# Altium footprint library GS-101.PcbLib: 29 footprints (part 2 of 2)
Each footprint in its own frame and in the unit in brackets; x right, y up, seen from the top. Pads: shape width x height; smd on the part's side, far side on the other; paste and mask are expansions set on the pad; w line width, h text height; cw(c..) or ccw(c..) is an arc to the next point about the centre after c.
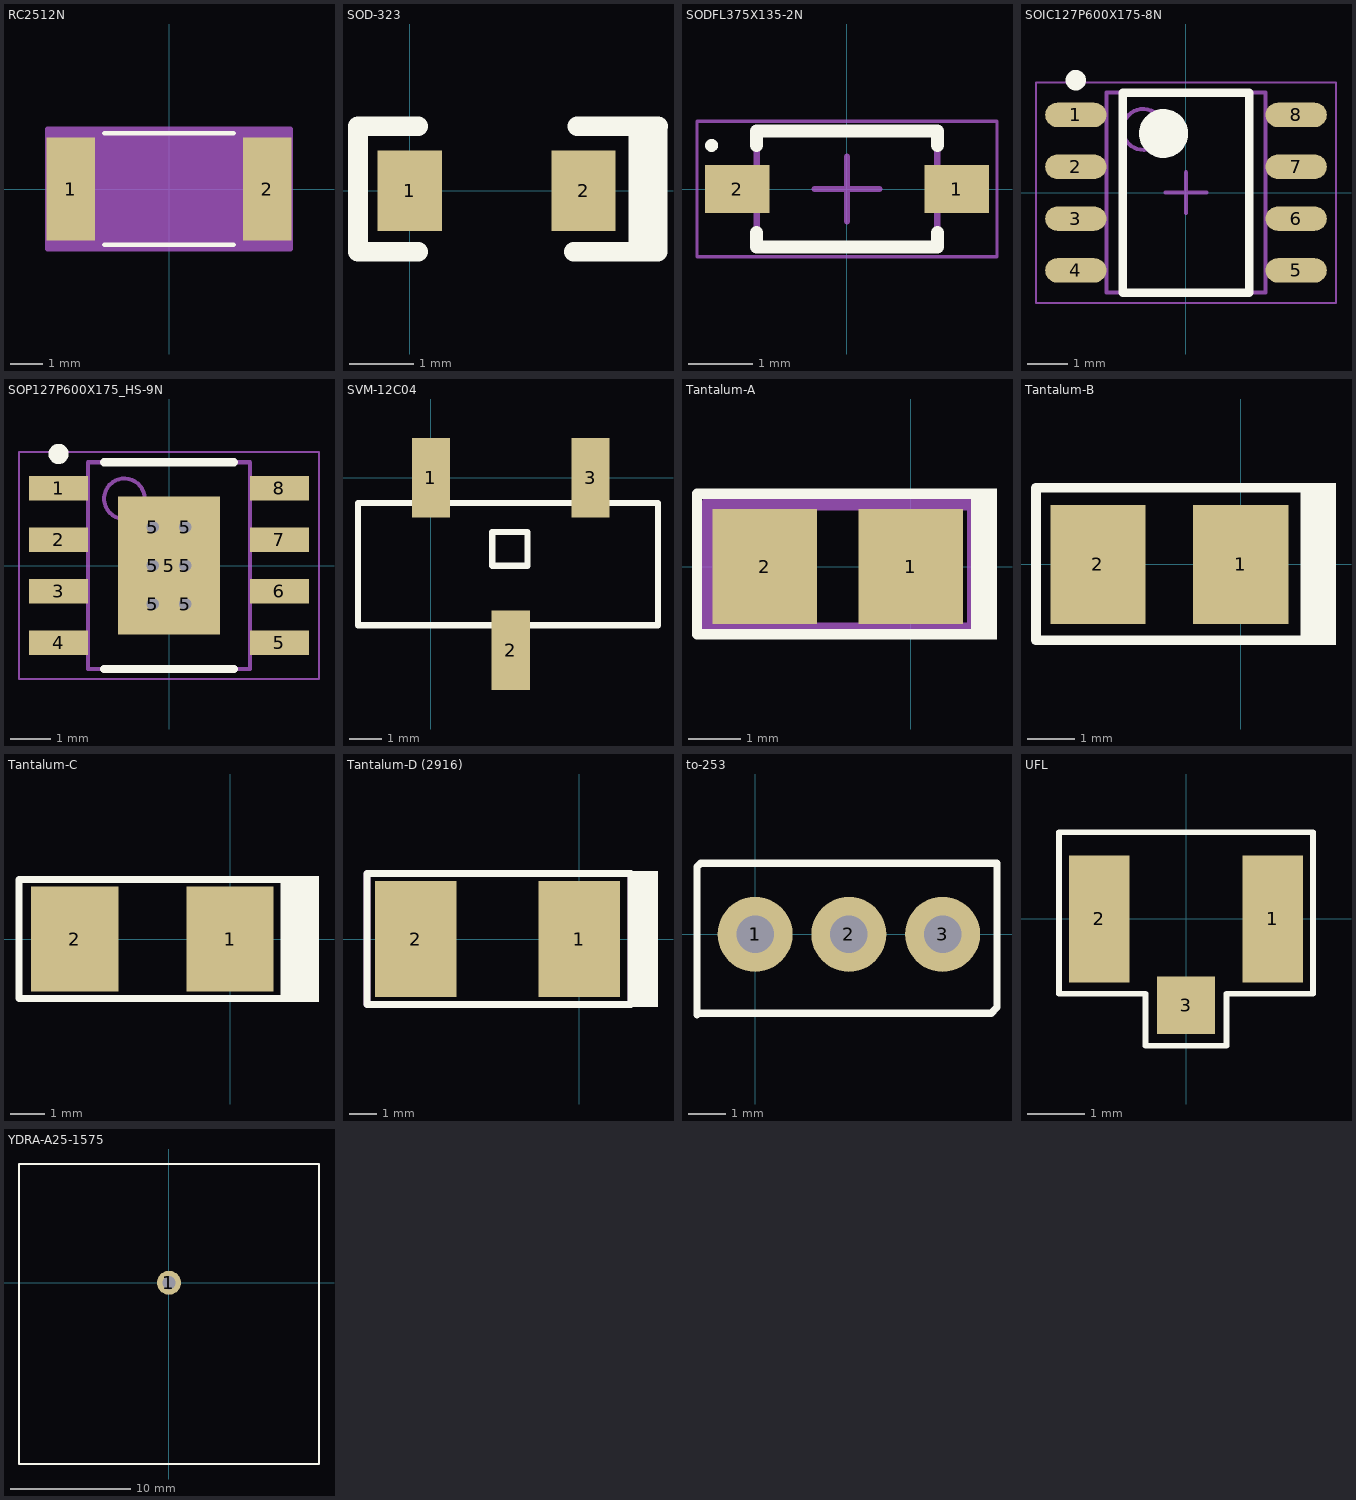
[diagram p1: the footprints below, top view; thin cyan lines are the x and y axes]

## RC2512N [mm]
pads (2):
  rect 1.5x3.2 smd paste+0 mask+0: 1(-3.048,0) 2(3.048,0)
Top Overlay:
  lines w0.152: -1.992,-1.727 1.992,-1.727 ; -1.992,1.727 1.992,1.727
Mechanical 13:
  lines w0.025: -3.15,-1.6 -3.15,1.6 ; -3.15,-1.6 3.15,-1.6 ; -3.15,-1.6 -2.3,-1.6 -2.3,1.6 -3.15,1.6 ; -3.15,-1.6 -3.15,1.6 ; -3.15,1.6 3.15,1.6 ; 3.15,-1.6 3.15,1.6 ; 3.15,-1.6 3.15,1.6 ; 3.15,-1.6 2.3,-1.6 2.3,1.6 3.15,1.6
Mechanical 15:
  region: 3.76,-1.854 -3.76,-1.854 -3.76,1.854 3.76,1.854
  lines w0.152: -3.76,-1.854 3.76,-1.854 3.76,1.854 -3.76,1.854 -3.76,-1.854
3D body "RC2512N-M.step": height 0.71, standoff 0, extent -3.15,-1.6 3.15,1.6

## SOD-323 [mm]
pads (2):
  rect 1x1.25 smd: 1(0,0) 2(2.7,0)
Top Overlay:
  lines w0.305: 0.135,-0.95 -0.8,-0.95 -0.8,1 0.135,1 ; 2.55,-0.95 3.806,-0.95 ; 2.6,1 3.856,1 ; 3.55,-0.95 3.55,1 ; 3.85,-0.95 3.85,1
3D body "User Library-SOD323-1.step": height 1.1, standoff 0, extent 0.05,-0.675 2.65,0.675

## SODFL375X135-2N [mm] "SODFL, 2-Leads, Body 1.60x3.75mm, IPC Medium Density"
height 1.35
pads (2):
  rect 1x0.75 smd: 1(1.7,0) 2(-1.7,0)
Top Overlay:
  circle w0.1: c-2.1,0.675 r0.05
  lines w0.2: -1.4,-0.675 -1.4,-0.9 1.4,-0.9 1.4,-0.675 ; -1.4,0.675 -1.4,0.9 1.4,0.9 1.4,0.675
Mechanical 13:
  lines w0.1: -1.4,-0.9 -1.4,0.9 1.4,0.9 1.4,-0.9 -1.4,-0.9
Mechanical 15:
  lines w0.05: -2.325,-1.05 -2.325,1.05 2.325,1.05 2.325,-1.05 -2.325,-1.05
  lines w0.1: -0.5,0 0.5,0 ; 0,-0.5 0,0.5
3D body "SODFL375X135-2N.step": height 1.35, standoff 0, extent -1.875,-0.9 1.875,0.9

## SOIC127P600X175-8N [mm] "SOIC, 8-Leads, Body 4.90x3.90mm, Pitch 1.27mm, IPC Medium Density"
height 1.75
pads (8):
  oval 1.5x0.6 smd: 1(-2.7,1.905) 2(-2.7,0.635) 3(-2.7,-0.635) 4(-2.7,-1.905) 5(2.7,-1.905) 6(2.7,-0.635) 7(2.7,0.635) 8(2.7,1.905)
Top Overlay:
  circle w0.6: c-0.55,1.45 r0.3
  circle w0.25: c-2.7,2.755 r0.125
  lines w0.2: -1.55,-2.45 1.55,-2.45 1.55,2.45 -1.55,2.45 -1.55,-2.45
Mechanical 13:
  circle w0.1: c-1.05,1.55 r0.5
  lines w0.1: -1.95,-2.45 1.95,-2.45 1.95,2.45 -1.95,2.45 -1.95,-2.45
Mechanical 15:
  lines w0.05: -3.675,-2.7 3.675,-2.7 3.675,2.7 -3.675,2.7 -3.675,-2.7
  lines w0.1: -0.5,0 0.5,0 ; 0,-0.5 0,0.5
3D body "SOIC127P600X175-8N.step": height 1.75, standoff 0, extent -3,-2.45 3,2.45

## SOP127P600X175_HS-9N [mm] "SOP, 8-Leads, Body 4.90x3.90mm, Pitch 1.27mm, Thermal Pad 3.41x2.52mm, IPC Medium Density"
height 1.75
pads (15):
  rect 1.45x0.6 smd: 1(-2.725,1.905) 2(-2.725,0.635) 3(-2.725,-0.635) 4(-2.725,-1.905) 5(2.725,-1.905) 6(2.725,-0.635) 7(2.725,0.635) 8(2.725,1.905)
  round 0.7 hole 0.3: 5(-0.4,-0.95) 5(-0.4,0) 5(-0.4,0.95) 5(0.4,-0.95) 5(0.4,0) 5(0.4,0.95)
  rect 2.52x3.41 smd: 5(0,0)
Top Overlay:
  circle w0.25: c-2.725,2.755 r0.125
  lines w0.2: -1.6,-2.55 1.6,-2.55 ; -1.6,2.55 1.6,2.55
Mechanical 13:
  circle w0.1: c-1.1,1.65 r0.5
  lines w0.1: -2,-2.55 2,-2.55 2,2.55 -2,2.55 -2,-2.55
Mechanical 15:
  lines w0.05: -3.7,-2.8 3.7,-2.8 3.7,2.8 -3.7,2.8 -3.7,-2.8
  lines w0.1: -0.5,0 0.5,0 ; 0,-0.5 0,0.5
3D body "SOP127P600X175_HS-9N.step": height 1.75, standoff 0, extent -3,-2.55 3,2.55

## SVM-12C04 [mm] "Slide Switch SPDT Surface Mount, Vertical Push"
height 1.4
pads (3):
  rect 1.2x2.5 smd: 1(0,0) 2(2.5,-5.4) 3(5,0)
Top Overlay:
  lines w0.2: -2.286,-4.623 7.112,-4.623 7.112,-0.787 -2.286,-0.787 -2.286,-4.623 ; 1.922,-2.749 1.922,-1.699 3.022,-1.699 3.022,-2.749 1.922,-2.749

## Tantalum-A [mm] "1206 (3216 Metric) Tantalum A"
pads (2):
  rect 2x2.2 smd: 1(0,0) 2(-2.8,0)
Top Overlay:
  rectangle: 1.15,-1.4 1.65,1.5
  lines w0.2: 1.25,-1.3 -4.1,-1.3 -4.1,1.4 1.5,1.4
Mechanical 13:
  lines w0.254: -3.9,-1.2 1.2,-1.2 1.2,1.2 -3.9,1.2 -3.9,-1.2
  text ".Designator" at -3.3,-0.7 h1.52
3D body "User Library-Tantalum Capacitor Case A.STEP": height 1.65, standoff 0, extent -3.045,-0.8 0.345,0.8

## Tantalum-B [mm] "1210 (3528 Metric) Tantalum Capacitor"
pads (2):
  rect 2x2.5 smd: 1(0,0) 2(-3,0)
Top Overlay:
  rectangle: 1.255,-1.69 2,1.71
  lines w0.2: 1.355,1.61 -3.145,1.61 -4.3,1.61 -4.3,-1.59 -2.545,-1.59 1.9,-1.59
3D body "User Library-Tantalum Capacitor Case B.STEP": height 2.09, standoff -0.01, extent -3.39,-1.41 0.3,1.41

## Tantalum-C [mm] "(6032) tantalum capacitor"
pads (2):
  rect 2.5x3 smd: 1(0,0) 2(-4.45,0)
Top Overlay:
  rectangle: 1.45,-1.8 2.55,1.8
  lines w0.2: 1.65,-1.7 -2.9,-1.7 -6.05,-1.7 -6.05,1.7 -3.5,1.7 1,1.7 1.65,1.7
Mechanical 13:
  text ".Designator" at -5.403,-0.827 h1.52
3D body "User Library-Tantalum Size C.STEP": height 2.6, standoff 0, extent -5.1,-1.6 0.7,1.6

## Tantalum-D (2916) [mm] "Tantalum Capacitor p=6mm size  2916 (metric 7343)"
pads (2):
  rect 3x4.25 smd: 1(0,0) 2(-6,0)
Top Overlay:
  rectangle: 1.8,-2.5 2.9,2.5
  lines w0.254: -7.8,-2.4 1.9,-2.4 1.9,2.4 -7.8,2.4 -7.8,-2.4
Mechanical 13:
  lines w0.254: -7.8,-2.4 -7.8,2.4 1.9,2.4 1.9,-2.4 -7.8,-2.4
  text ".Designator" at -6.8,-0.7 h1.52
3D body "User Library-CaseD_7343-31.STEP": height 2.8, standoff 0, extent -6.55,-2.2 0.75,2.1

## to-253 [mm]
pads (4):
  round 2 hole 1: 1(0,0) 1(0,0) 2(2.5,0) 3(5,0)
Top Overlay:
  lines w0.2: -1.55,-2.15 -1.5,-2.1 6.3,-2.1 6.45,-1.95 6.45,1.9 -1.45,1.9 -1.55,1.8 -1.55,-2.15

## UFL [mm]
pads (3):
  rect 1.05x2.2 smd paste+0.1: 1(1.5,0) 2(-1.5,0)
  rect 1x1 smd paste+0.1: 3(0,-1.5)
Top Overlay:
  lines w0.1: -2.2,-1.3 -2.2,1.5 2.2,1.5 2.2,-1.3 0.7,-1.3 0.7,-2.2 -0.7,-2.2 -0.7,-1.3 -2.2,-1.3
3D body "SW3dPS-UFL-R-SMD.STEP": height 1.25, standoff 0, extent -1.7,-1.6 1.7,1.5

## YDRA-A25-1575 [mm] "25x25mm GPS ceramic patch antenna"
pads (1):
  round 2 hole 1.1: 1(0,0)
Top Overlay:
  lines w0.2: -12.5,-15.1 12.5,-15.1 12.5,9.9 -12.5,9.9 -12.5,-15.1
3D body "User Library-YDRA-A25-1575.step": height 5, standoff -3, extent -12.5,-15.1 12.5,9.9